# Altium integrated library ALTIUM-WE-PD-rev19a.IntLib: 320 symbols (part 5 of 5)
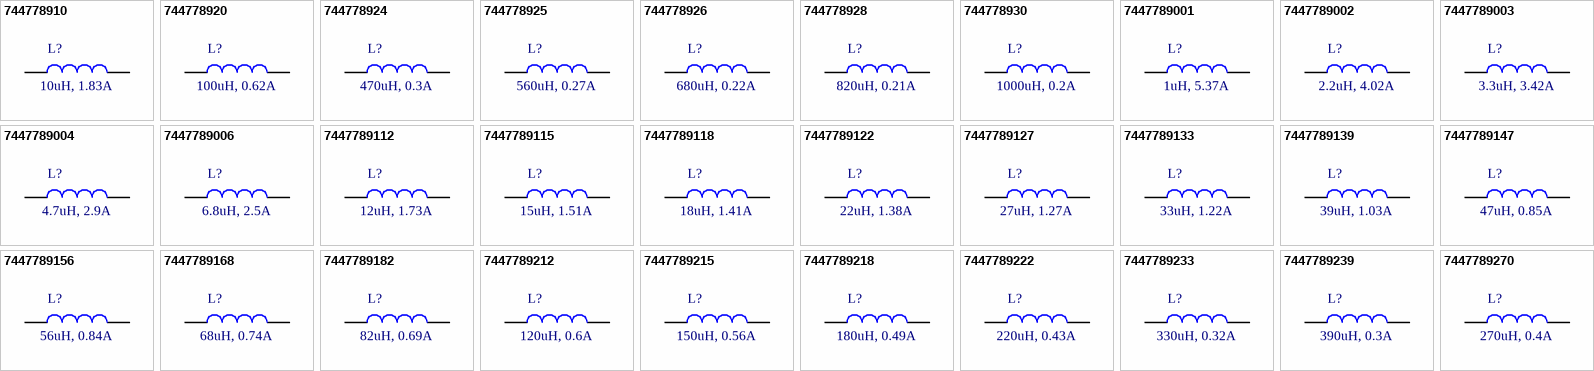
[diagram p18: symbols 744778910 to 7447789270]

## 7447789122
designator L?, comment 22uH, 1.38A
WE-PD SMT Power Inductor, size 7332, 22uH, 1.38A; Part Number: 7447789122; DC Resistance max.: 190mOhm; Self Resonant Frequency: 20MHz; Saturation Current: 1.4A; ComponentLink1Description: Manufacturer; ComponentLink1URL: http://www.we-online.de; ComponentLink2Description: Datasheet; ComponentLink2URL: https://katalog.we-online.com/pbs/datasheet/7447789122.pdf; Published Date: April 2019; Publisher: Wurth Elektronik; Rated Current: 1.38A; Size: 7332; Inductance: 22uH; Operating Temperature: -40 to +125degC; Mounting Technology: SMT; Packaging: Tape and Reel
footprint WE-PD_7332_Robust
pins: 1, 2

## 7447789127
designator L?, comment 27uH, 1.27A
WE-PD SMT Power Inductor, size 7332, 27uH, 1.27A; Part Number: 7447789127; DC Resistance max.: 210mOhm; Self Resonant Frequency: 18MHz; Saturation Current: 1.35A; ComponentLink1Description: Manufacturer; ComponentLink1URL: http://www.we-online.de; ComponentLink2Description: Datasheet; ComponentLink2URL: https://katalog.we-online.com/pbs/datasheet/7447789127.pdf; Published Date: April 2019; Publisher: Wurth Elektronik; Rated Current: 1.27A; Size: 7332; Inductance: 27uH; Operating Temperature: -40 to +125degC; Mounting Technology: SMT; Packaging: Tape and Reel
footprint WE-PD_7332_Robust
pins: 1, 2

## 7447789133
designator L?, comment 33uH, 1.22A
WE-PD SMT Power Inductor, size 7332, 33uH, 1.22A; Part Number: 7447789133; DC Resistance max.: 240mOhm; Self Resonant Frequency: 16MHz; Saturation Current: 1.15A; ComponentLink1Description: Manufacturer; ComponentLink1URL: http://www.we-online.de; ComponentLink2Description: Datasheet; ComponentLink2URL: https://katalog.we-online.com/pbs/datasheet/7447789133.pdf; Published Date: April 2019; Publisher: Wurth Elektronik; Rated Current: 1.22A; Size: 7332; Inductance: 33uH; Operating Temperature: -40 to +125degC; Mounting Technology: SMT; Packaging: Tape and Reel
footprint WE-PD_7332_Robust
pins: 1, 2

## 7447789139
designator L?, comment 39uH, 1.03A
WE-PD SMT Power Inductor, size 7332, 39uH, 1.03A; Part Number: 7447789139; DC Resistance max.: 320mOhm; Self Resonant Frequency: 14MHz; Saturation Current: 1.1A; ComponentLink1Description: Manufacturer; ComponentLink1URL: http://www.we-online.de; ComponentLink2Description: Datasheet; ComponentLink2URL: https://katalog.we-online.com/pbs/datasheet/7447789139.pdf; Published Date: April 2019; Publisher: Wurth Elektronik; Rated Current: 1.03A; Size: 7332; Inductance: 39uH; Operating Temperature: -40 to +125degC; Mounting Technology: SMT; Packaging: Tape and Reel
footprint WE-PD_7332_Robust
pins: 1, 2

## 7447789147
designator L?, comment 47uH, 0.85A
WE-PD SMT Power Inductor, size 7332, 47uH, 0.85A; Part Number: 7447789147; DC Resistance max.: 360mOhm; Self Resonant Frequency: 13.5MHz; Saturation Current: 1A; ComponentLink1Description: Manufacturer; ComponentLink1URL: http://www.we-online.de; ComponentLink2Description: Datasheet; ComponentLink2URL: https://katalog.we-online.com/pbs/datasheet/7447789147.pdf; Published Date: April 2019; Publisher: Wurth Elektronik; Rated Current: 0.85A; Size: 7332; Inductance: 47uH; Operating Temperature: -40 to +125degC; Mounting Technology: SMT; Packaging: Tape and Reel
footprint WE-PD_7332_Robust
pins: 1, 2

## 7447789156
designator L?, comment 56uH, 0.84A
WE-PD SMT Power Inductor, size 7332, 56uH, 0.84A; Part Number: 7447789156; DC Resistance max.: 470mOhm; Self Resonant Frequency: 12.5MHz; Saturation Current: 0.9A; ComponentLink1Description: Manufacturer; ComponentLink1URL: http://www.we-online.de; ComponentLink2Description: Datasheet; ComponentLink2URL: https://katalog.we-online.com/pbs/datasheet/7447789156.pdf; Published Date: April 2019; Publisher: Wurth Elektronik; Rated Current: 0.84A; Size: 7332; Inductance: 56uH; Operating Temperature: -40 to +125degC; Mounting Technology: SMT; Packaging: Tape and Reel
footprint WE-PD_7332_Robust
pins: 1, 2

## 7447789168
designator L?, comment 68uH, 0.74A
WE-PD SMT Power Inductor, size 7332, 68uH, 0.74A; Part Number: 7447789168; DC Resistance max.: 520mOhm; Self Resonant Frequency: 11.5MHz; Saturation Current: 0.84A; ComponentLink1Description: Manufacturer; ComponentLink1URL: http://www.we-online.de; ComponentLink2Description: Datasheet; ComponentLink2URL: https://katalog.we-online.com/pbs/datasheet/7447789168.pdf; Published Date: April 2019; Publisher: Wurth Elektronik; Rated Current: 0.74A; Size: 7332; Inductance: 68uH; Operating Temperature: -40 to +125degC; Mounting Technology: SMT; Packaging: Tape and Reel
footprint WE-PD_7332_Robust
pins: 1, 2

## 7447789182
designator L?, comment 82uH, 0.69A
WE-PD SMT Power Inductor, size 7332, 82uH, 0.69A; Part Number: 7447789182; DC Resistance max.: 690mOhm; Self Resonant Frequency: 9.8MHz; Saturation Current: 0.78A; ComponentLink1Description: Manufacturer; ComponentLink1URL: http://www.we-online.de; ComponentLink2Description: Datasheet; ComponentLink2URL: https://katalog.we-online.com/pbs/datasheet/7447789182.pdf; Published Date: April 2019; Publisher: Wurth Elektronik; Rated Current: 0.69A; Size: 7332; Inductance: 82uH; Operating Temperature: -40 to +125degC; Mounting Technology: SMT; Packaging: Tape and Reel
footprint WE-PD_7332_Robust
pins: 1, 2

## 7447789212
designator L?, comment 120uH, 0.6A
WE-PD SMT Power Inductor, size 7332, 120uH, 0.6A; Part Number: 7447789212; DC Resistance max.: 890mOhm; Self Resonant Frequency: 8.5MHz; Saturation Current: 0.68A; ComponentLink1Description: Manufacturer; ComponentLink1URL: http://www.we-online.de; ComponentLink2Description: Datasheet; ComponentLink2URL: https://katalog.we-online.com/pbs/datasheet/7447789212.pdf; Published Date: April 2019; Publisher: Wurth Elektronik; Rated Current: 0.6A; Size: 7332; Inductance: 120uH; Operating Temperature: -40 to +125degC; Mounting Technology: SMT; Packaging: Tape and Reel
footprint WE-PD_7332_Robust
pins: 1, 2

## 7447789215
designator L?, comment 150uH, 0.56A
WE-PD SMT Power Inductor, size 7332, 150uH, 0.56A; Part Number: 7447789215; DC Resistance max.: 1270mOhm; Self Resonant Frequency: 7.2MHz; Saturation Current: 0.53A; ComponentLink1Description: Manufacturer; ComponentLink1URL: http://www.we-online.de; ComponentLink2Description: Datasheet; ComponentLink2URL: https://katalog.we-online.com/pbs/datasheet/7447789215.pdf; Published Date: April 2019; Publisher: Wurth Elektronik; Rated Current: 0.56A; Size: 7332; Inductance: 150uH; Operating Temperature: -40 to +125degC; Mounting Technology: SMT; Packaging: Tape and Reel
footprint WE-PD_7332_Robust
pins: 1, 2

## 7447789218
designator L?, comment 180uH, 0.49A
WE-PD SMT Power Inductor, size 7332, 180uH, 0.49A; Part Number: 7447789218; DC Resistance max.: 1450mOhm; Self Resonant Frequency: 7MHz; Saturation Current: 0.5A; ComponentLink1Description: Manufacturer; ComponentLink1URL: http://www.we-online.de; ComponentLink2Description: Datasheet; ComponentLink2URL: https://katalog.we-online.com/pbs/datasheet/7447789218.pdf; Published Date: April 2019; Publisher: Wurth Elektronik; Rated Current: 0.49A; Size: 7332; Inductance: 180uH; Operating Temperature: -40 to +125degC; Mounting Technology: SMT; Packaging: Tape and Reel
footprint WE-PD_7332_Robust
pins: 1, 2

## 7447789222
designator L?, comment 220uH, 0.43A
WE-PD SMT Power Inductor, size 7332, 220uH, 0.43A; Part Number: 7447789222; DC Resistance max.: 1650mOhm; Self Resonant Frequency: 6MHz; Saturation Current: 0.42A; ComponentLink1Description: Manufacturer; ComponentLink1URL: http://www.we-online.de; ComponentLink2Description: Datasheet; ComponentLink2URL: https://katalog.we-online.com/pbs/datasheet/7447789222.pdf; Published Date: April 2019; Publisher: Wurth Elektronik; Rated Current: 0.43A; Size: 7332; Inductance: 220uH; Operating Temperature: -40 to +125degC; Mounting Technology: SMT; Packaging: Tape and Reel
footprint WE-PD_7332_Robust
pins: 1, 2

## 7447789233
designator L?, comment 330uH, 0.32A
WE-PD SMT Power Inductor, size 7332, 330uH, 0.32A; Part Number: 7447789233; DC Resistance max.: 2620mOhm; Self Resonant Frequency: 4.8MHz; Saturation Current: 0.35A; ComponentLink1Description: Manufacturer; ComponentLink1URL: http://www.we-online.de; ComponentLink2Description: Datasheet; ComponentLink2URL: https://katalog.we-online.com/pbs/datasheet/7447789233.pdf; Published Date: April 2019; Publisher: Wurth Elektronik; Rated Current: 0.32A; Size: 7332; Inductance: 330uH; Operating Temperature: -40 to +125degC; Mounting Technology: SMT; Packaging: Tape and Reel
footprint WE-PD_7332_Robust
pins: 1, 2

## 7447789239
designator L?, comment 390uH, 0.3A
WE-PD SMT Power Inductor, size 7332, 390uH, 0.3A; Part Number: 7447789239; DC Resistance max.: 2940mOhm; Self Resonant Frequency: 4.4MHz; Saturation Current: 0.34A; ComponentLink1Description: Manufacturer; ComponentLink1URL: http://www.we-online.de; ComponentLink2Description: Datasheet; ComponentLink2URL: https://katalog.we-online.com/pbs/datasheet/7447789239.pdf; Published Date: April 2019; Publisher: Wurth Elektronik; Rated Current: 0.3A; Size: 7332; Inductance: 390uH; Operating Temperature: -40 to +125degC; Mounting Technology: SMT; Packaging: Tape and Reel
footprint WE-PD_7332_Robust
pins: 1, 2

## 7447789270
designator L?, comment 270uH, 0.4A
WE-PD SMT Power Inductor, size 7332, 270uH, 0.4A; Part Number: 7447789270; DC Resistance max.: 2310mOhm; Self Resonant Frequency: 5.2MHz; Saturation Current: 0.39A; ComponentLink1Description: Manufacturer; ComponentLink1URL: http://www.we-online.de; ComponentLink2Description: Datasheet; ComponentLink2URL: https://katalog.we-online.com/pbs/datasheet/7447789270.pdf; Published Date: April 2019; Publisher: Wurth Elektronik; Rated Current: 0.4A; Size: 7332; Inductance: 270uH; Operating Temperature: -40 to +125degC; Mounting Technology: SMT; Packaging: Tape and Reel
footprint WE-PD_7332_Robust
pins: 1, 2